# Altium footprint library Pads.PcbLib: 71 footprints (part 5 of 5)
Each footprint in its own frame and in the unit in brackets; x right, y up, seen from the top. Pads: shape width x height; smd on the part's side, far side on the other; paste and mask are expansions set on the pad; w line width, h text height; cw(c..) or ccw(c..) is an arc to the next point about the centre after c.
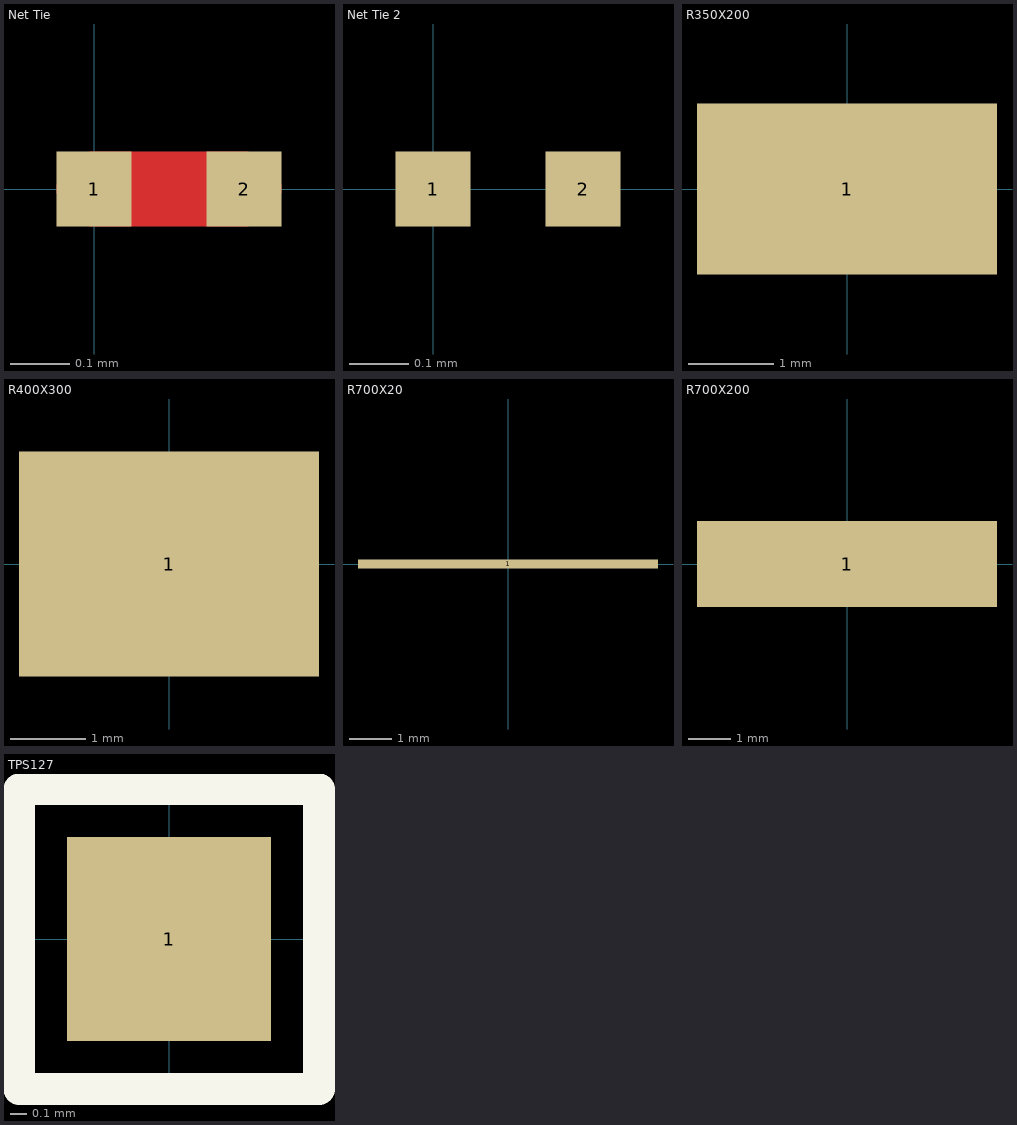
[diagram p4: the footprints below, top view; thin cyan lines are the x and y axes]

## Net Tie [mil] "SMD Net Tie"
pads (2):
  rect 5x5 smd paste-2.5 mask-2.5: 1(0,0) 2(10,0)
Top Layer:
  lines w5: 0,0 10,0

## Net Tie 2 [mil] "SMD Net Tie"
pads (2):
  rect 5x5 smd paste-2.5 mask-2.5: 1(0,0) 2(10,0)

## R350X200 [mm] "3.5mm x  2mm SMD Pad"
pads (1):
  rect 3.5x2 smd paste-1: 1(0,0)

## R400X300 [mm] "4mm x  3mm SMD Pad"
pads (1):
  rect 4x3 smd paste-1.5: 1(0,0)

## R700X20 [mm] "7mm x  0.2mm SMD Pad"
pads (1):
  rect 7x0.2 smd paste-0.1: 1(0,0)

## R700X200 [mm] "7mm x  2mm SMD Pad"
pads (1):
  rect 7x2 smd paste-1: 1(0,0)

## TPS127 [mm] "1.27 x  1.27mm SMD Test Point Area"
pads (1):
  rect 1.27x1.27 smd paste-1.27: 1(0,0)
Top Overlay:
  lines w0.2: -0.935,-0.935 0.935,-0.935 0.935,0.935 -0.935,0.935 -0.935,-0.935
Mechanical 14:
  lines w0.1: -0.935,-0.935 0.935,-0.935 0.935,0.935 -0.935,0.935 -0.935,-0.935